# Altium schematic symbol library USB_TypeA_Connector.SchLib: 1 symbol
Pins are listed as number, name and electrical type; pins without a type are passive.

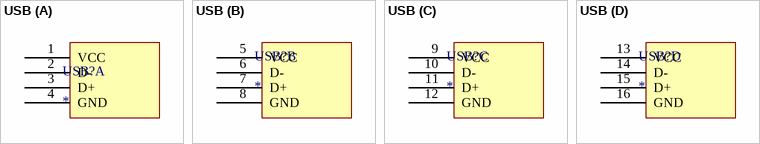
[diagram p0: symbol USB]

## USB
designator USB?
footprint USB_4S (USB Vertical 4 Stack)
part A pins: 1 VCC, 2 D-, 3 D+, 4 GND
part B pins: 5 VCC, 6 D-, 7 D+, 8 GND
part C pins: 9 VCC, 10 D-, 11 D+, 12 GND
part D pins: 13 VCC, 14 D-, 15 D+, 16 GND